# Altium schematic symbol library Header.SchLib: 17 symbols
Pins are listed as number, name and electrical type; pins without a type are passive.

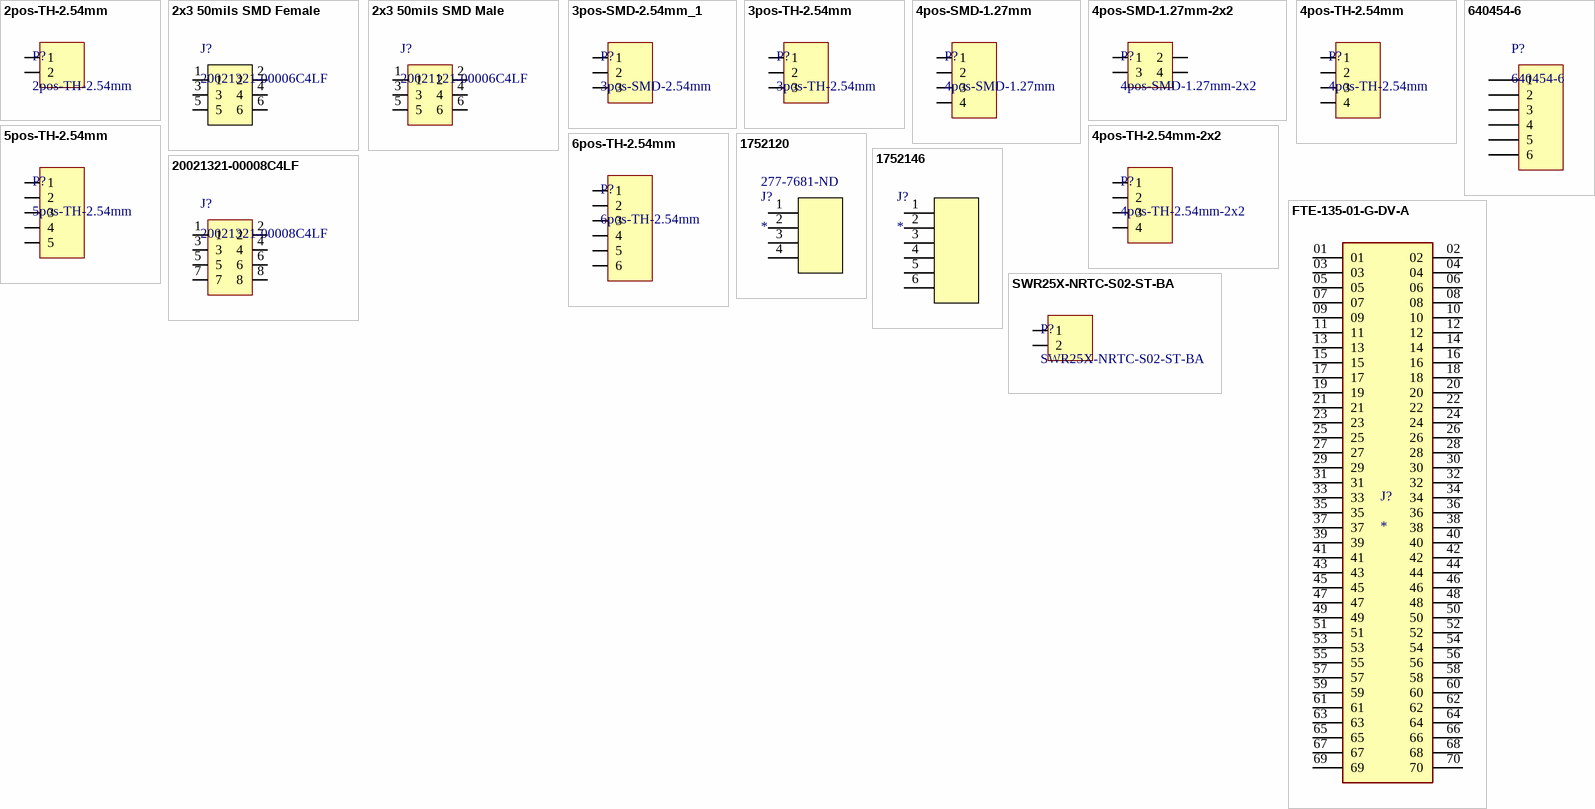
[diagram p0: symbols 2pos-TH-2.54mm to SWR25X-NRTC-S02-ST-BA]

## 2pos-TH-2.54mm
designator P?
2pos TH 2.54mm Header; Supplier 1: Digi-Key; Supplier Part Number 1: N/A; Mounted: Yes; Package / Case: TH; Volt: N/A
footprint HDR1X2 (Connector; Header; 2 Position)
pins: 1, 2

## 2x3 50mils SMD Female
designator J?, comment 20021321-00006C4LF
Minitek127, Board to Board connectors, PCB mounted Receptacle, Vertical, Surface Mount, Double Row, 6 Positions, 1.27mm (0.05inch) pitch; MF: AMPHENOL ICC / FCI; Package: None; Price: None; Check_prices: https://www.snapeda.com/parts/20021321-00006C4LF/Amphenol/view-part/?ref=eda; Value: *; SnapEDA_Link: https://www.snapeda.com/parts/20021321-00006C4LF/Amphenol/view-part/?ref=snap; MP: 20021321-00006C4LF; Availability: In Stock; Purchase-URL: https://pricing.snapeda.com/search?q=20021321-00006C4LF&ref=eda; Supplier 1: Digikey; Supplier Part Number 1: 609-3704-2-ND
footprint AMPHENOL_20021321-00006C4LF
pins: 1, 2, 3, 4, 5, 6

## 2x3 50mils SMD Male
designator J?, comment 20021121-00006C4LF
Minitek127, Board to Board connector, Unshrouded vertical header, Surface Mount, Double Row, 6Positions, 1.27mm (0.5inch) pitch.; MF: AMPHENOL ICC / FCI; Package: None; Price: None; Check_prices: https://www.snapeda.com/parts/20021121-00006C4LF/Amphenol/view-part/?ref=eda; Value: *; SnapEDA_Link: https://www.snapeda.com/parts/20021121-00006C4LF/Amphenol/view-part/?ref=snap; MP: 20021121-00006C4LF; Availability: In Stock; Purchase-URL: https://pricing.snapeda.com/search?q=20021121-00006C4LF&ref=eda; Supplier 1: Digikey; Supplier Part Number 1: 609-3693-2-ND
footprint AMPHENOL_20021121-00006C4LF
pins: 1, 2, 3, 4, 5, 6

## 3pos-SMD-2.54mm_1
designator P?, comment 3pos-SMD-2.54mm
3pos SMD 2.54mm Header; Supplier 1: Digi-Key; Supplier Part Number 1: N/A; Mounted: Yes; Package / Case: SMD; Volt: N/A
footprint HDR1X3 - PAD (Connector; Header; 2 Position)
pins: 1, 2, 3

## 3pos-TH-2.54mm
designator P?
3pos TH 2.54mm Header; Supplier 1: Digi-Key; Supplier Part Number 1: N/A; Mounted: Yes; Package / Case: TH; Volt: N/A
footprint HDR1X3 (Connector; Header; 2 Position)
pins: 1, 2, 3

## 4pos-SMD-1.27mm
designator P?
4pos SMD 1.27mm; Supplier 1: Digi-Key; Supplier Part Number 1: N/A; Mounted: Yes; Package / Case: TH; Volt: N/A
footprint HDR1X4-SMD-50mils (Connector; Header; 4 Positions 50mils)
pins: 1, 2, 3, 4

## 4pos-SMD-1.27mm-2x2
designator P?
4pos SMD 1.27mm; Supplier 1: Digi-Key; Supplier Part Number 1: S9012E-02-ND; Mounted: Yes; Package / Case: TH; Volt: N/A
footprint HDR2X2-SMD-50mils (Connector; Header; 2 Position)
pins: 1, 2, 3, 4

## 4pos-TH-2.54mm
designator P?
4pos TH 2.54mm Header; Supplier 1: Digi-Key; Supplier Part Number 1: 732-5317-ND; Mounted: Yes; Package / Case: TH; Volt: N/A
footprint HDR1X4 (Connector; Header; 2 Position)
footprint HDR1X4-W (Connector; Header; 2 Position)
footprint HDR1X4-SMD (Connector; Header; 2 Position)
pins: 1, 2, 3, 4

## 4pos-TH-2.54mm-2x2
designator P?
4pos TH 2.54mm Header-2x2; Supplier 1: Digi-Key; Supplier Part Number 1: N/A; Mounted: Yes; Package / Case: TH; Volt: N/A
footprint HDR2X2 (Connector; Header; 2 Position)
pins: 1, 2, 3, 4

## 5pos-TH-2.54mm
designator P?
5pos TH 2.54mm Header; Supplier 1: Digi-Key; Supplier Part Number 1: N/A; Mounted: Yes; Package / Case: TH; Volt: N/A
footprint HDR1X5 (Connector; Header; 2 Position)
pins: 1, 2, 3, 4, 5

## 6pos-TH-2.54mm
designator P?
6pos TH 2.54mm Header; Supplier 1: Digi-Key; Supplier Part Number 1: N/A; Mounted: Yes; Package / Case: TH; Volt: N/A
footprint HDR1X6 (Connector; Header; 2 Position)
pins: 1, 2, 3, 4, 5, 6

## 640454-6
designator P?
CONN HEADER VERT 6POS .100 TIN; Manufacturer: TE Connectivity AMP Connectors; Connector Type: Header, Unshrouded; Pitch: 0.100" (2.54mm); Number of Positions: 6; Number of Positions Loaded: All; Supplier 1: Digi-Key; Supplier Part Number 1: A19433-ND; Category: Connectors, Interconnects; Packaging: Bulk; Part Status: Active; Contact Type: Male Pin; Number of Rows: 1; Row Spacing: -; Mounting Type: Through Hole; Termination: Solder; Fastening Type: -; Contact Mating Length: 0.295" (7.49mm); Features: Polarizing Key; Contact Finish: Tin; Contact Finish Thickness: -; Color: Natural; ComponentLink1URL: http://www.te.com/commerce/DocumentDelivery/DDEController?Action=srchrtrv&DocNm=640454&DocType=Customer+Drawing&DocLang=English; ComponentLink1Description: http://www.te.com/commerce/DocumentDelivery/DDEController?Action=srchrtrv&DocNm=640454&DocType=Customer+Drawing&DocLang=English; Manufacturer Part Number: 640454-6
footprint 640454-6 (CONN HEADER MTA-100 VERT 6POS .100)
pins: 1, 2, 3, 4, 5, 6

## 1752120
designator J?  Supplier Part Number 1: 277-7681-ND
No Description Available; Mfr_Name: Phoenix Contact; RefDes: RefDes; Type: Type; Supplier 1: Digikey
footprint CONN_1752120_PXC
pins: 1, 2, 3, 4

## 1752146
designator J?
No Description Available; Mfr_Name: Phoenix Contact; RefDes: RefDes; Type: Type; Supplier Part Number 1: 277-13909-ND
footprint CONN_1752146_PXC
pins: 1, 2, 3, 4, 5, 6

## 20021321-00008C4LF
designator J?
2x4 header 50mils SMD; Mfr_Name: Amphenol ICC; Copyright: Copyright (C) 2023 Ultra Librarian. All rights reserved.; Manufacturer_Part_Number: 20021321-00008C4LF; RefDes: RefDes; Type: DEV; Supplier 1: Digikey; Supplier Part Number 1: 609-3705-2-ND
footprint CONN_20021321-00008C4LF_AMP
pins: 1, 2, 3, 4, 5, 6, 7, 8

## FTE-135-01-G-DV-A
designator J?
MP: FTE-135-01-G-DV-A; Value: *; Price: None; Availability: Unavailable; Package: None
footprint SAMTEC_FTE-135-01-G-DV-A
pins: 01, 02, 03, 04, 05, 06, 07, 08, 09, 10, 11, 12, 13, 14, 15, 16, 17, 18, 19, 20, 21, 22, 23, 24, 25, 26, 27, 28, 29, 30, 31, 32, 33, 34, 35, 36, 37, 38, 39, 40, 41, 42, 43, 44, 45, 46, 47, 48, 49, 50, 51, 52, 53, 54, 55, 56, 57, 58, 59, 60, 61, 62, 63, 64, 65, 66, 67, 68, 69, 70

## SWR25X-NRTC-S02-ST-BA
designator P?
2pos TH 2.54mm Header; Supplier 1: Digi-Key; Supplier Part Number 1: N/A; Mounted: Yes; Package / Case: TH; Volt: N/A
footprint SWR25X-NRTC-S02-ST-BA (Connector; Header; 2 Position)
pins: 1, 2